# EAGLE library part LCD320QVB (library Stworzone3)
LCD320 QVB
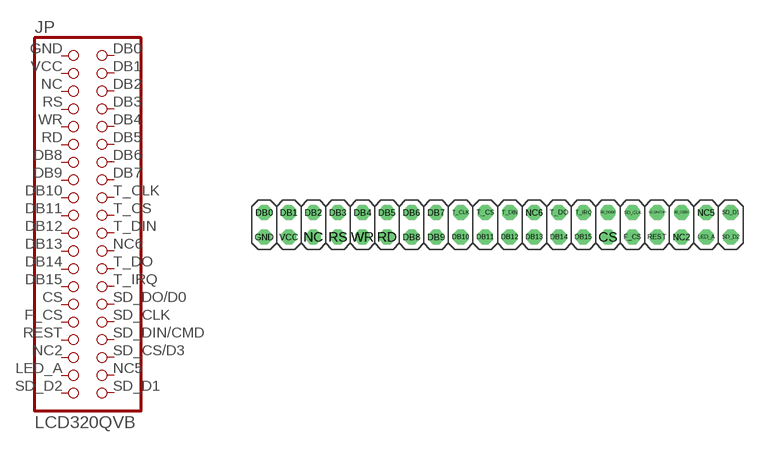
[diagram p1: symbol with the pads of 2X20; footprint 2X20]

Designator prefix JP

## LCD320QVBLCD320QVB  [2X20]
CS  29  pas
DB0  2  pas
DB1  4  pas
DB2  6  pas
DB3  8  pas
DB4  10  pas
DB5  12  pas
DB6  14  pas
DB7  16  pas
DB8  13  pas
DB9  15  pas
DB10  17  pas
DB11  19  pas
DB12  21  pas
DB13  23  pas
DB14  25  pas
DB15  27  pas
F_CS  31  pas
GND  1  pas
LED_A  37  pas
NC  5  pas
NC2  35  pas
NC5  38  pas
NC6  24  pas
RD  11  pas
REST  33  pas
RS  7  pas
SD_CLK  32  pas
SD_CS/D3  36  pas
SD_D1  40  pas
SD_D2  39  pas
SD_DIN/CMD  34  pas
SD_DO/D0  30  pas
T_CLK  18  pas
T_CS  20  pas
T_DIN  22  pas
T_DO  26  pas
T_IRQ  28  pas
VCC  3  pas
WR  9  pas

## Footprint 2X20 (pad centres in mm)
PIN HEADER
drill 1.016 octagon: CS 11.43,-1.27; DB0 -24.13,1.27; DB1 -21.59,1.27; DB2 -19.05,1.27; DB3 -16.51,1.27; DB4 -13.97,1.27; DB5 -11.43,1.27; DB6 -8.89,1.27; DB7 -6.35,1.27; DB8 -8.89,-1.27; DB9 -6.35,-1.27; DB10 -3.81,-1.27; DB11 -1.27,-1.27; DB12 1.27,-1.27; DB13 3.81,-1.27; DB14 6.35,-1.27; DB15 8.89,-1.27; F_CS 13.97,-1.27; GND -24.13,-1.27; LED_A 21.59,-1.27; NC -19.05,-1.27; NC2 19.05,-1.27; NC5 21.59,1.27; NC6 3.81,1.27; RD -11.43,-1.27; REST 16.51,-1.27; RS -16.51,-1.27; SD_CLK 13.97,1.27; SD_CS/D3 19.05,1.27; SD_D1 24.13,1.27; SD_D2 24.13,-1.27; SD_DIN/CMD 16.51,1.27; SD_DO/D0 11.43,1.27; T_CLK -3.81,1.27; T_CS -1.27,1.27; T_DIN 1.27,1.27; T_DO 6.35,1.27; T_IRQ 8.89,1.27; VCC -21.59,-1.27; WR -13.97,-1.27